# Altium integrated library ST Remote Control Receiver.IntLib: 1 symbol
Pins are listed as number, name and electrical type; pins without a type are passive.

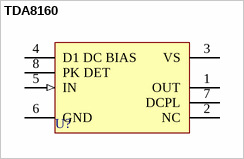
[diagram p0: symbol TDA8160]

## TDA8160
designator U?
Infrared Remote Control Receiver; Published: 24-Aug-2001; LatestRevisionDate: 17-Jul-2002; LatestRevisionNote: Re-released for DXP Platform.; DatasheetDocument: Aug-1992; PackageReference: DIP8; Publisher: Altium Limited; Code_JEDEC: MO-001-AN
footprint DIP8 (DIP; 8 Leads; Row Spacing 7.62 mm; Pitch 2.54 mm)
pins: 1 OUT (oc), 2 NC, 3 VS (power), 4 D1 DC BIAS, 5 IN (in), 6 GND (power), 7 DCPL, 8 PK DET